# EAGLE library part VIDEOPAC (library BUSES)
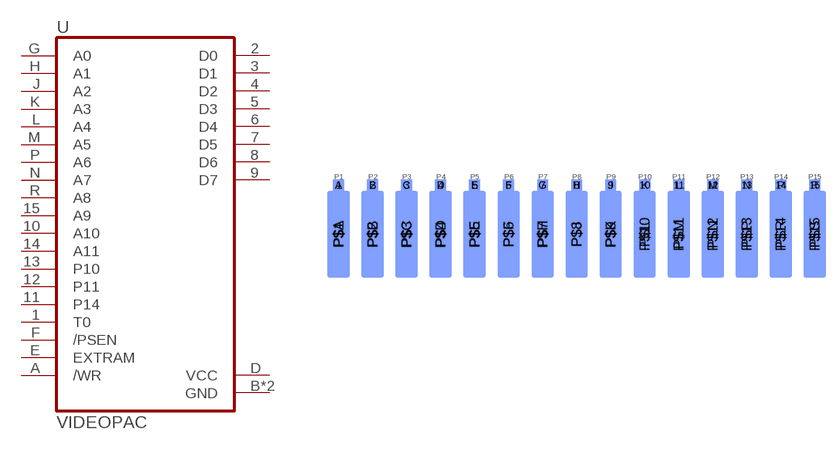
[diagram p0: symbol with the pads of VIDEOPAC; footprint VIDEOPAC]

Designator prefix -

## VIDEOPACEDGE  [VIDEOPAC]
1  T0  out
2  D0
3  D1
4  D2
5  D3
6  D4
7  D5
8  D6
9  D7
10  A10  out
11  P14  out
12  P11  out
13  P10  out
14  A11  out
15  A9  out
A  /WR  out
B  GND  pwr
C  GND  pwr
D  VCC  pwr
E  EXTRAM  out
F  /PSEN  out
G  A0  out
H  A1  out
J  A2  out
K  A3  out
L  A4  out
M  A5  out
N  A7  out
P  A6  out
R  A8  out

## Footprint VIDEOPAC (pad centres in mm)
smd 1.27 x 1.27: 1 -27.683,6.167; 2 -23.723,6.167; 3 -19.763,6.167; 4 -15.803,6.167; 5 -11.843,6.167; 6 -7.883,6.167; 7 -3.923,6.167; 8 0.037,6.167; 9 3.997,6.167; 10 7.957,6.167; 11 11.917,6.167; 12 15.877,6.167; 13 19.837,6.167; 14 23.797,6.167; 15 27.757,6.167
smd 1.27 x 1.27 bottom: A -27.683,6.167; B -23.723,6.167; C -19.763,6.167; D -15.803,6.167; E -11.843,6.167; F -7.883,6.167; G -3.923,6.167; H 0.037,6.167; J 3.997,6.167; K 7.957,6.167; L 11.917,6.167; M 15.877,6.167; N 19.837,6.167; P 23.797,6.167; R 27.757,6.167
smd 2.6 x 10.16: P$1 -27.683,0.452; P$2 -23.723,0.452; P$3 -19.763,0.452; P$4 -15.803,0.452; P$5 -11.843,0.452; P$6 -7.883,0.452; P$7 -3.923,0.452; P$8 0.037,0.452; P$9 3.997,0.452; P$10 7.957,0.452; P$11 11.917,0.452; P$12 15.877,0.452; P$13 19.837,0.452; P$14 23.797,0.452; P$15 27.757,0.452
smd 2.6 x 10.16 bottom: P$A -27.683,0.452; P$B -23.723,0.452; P$C -19.763,0.452; P$D -15.803,0.452; P$E -11.843,0.452; P$F -7.883,0.452; P$H -3.923,0.452; P$J 0.037,0.452; P$K 3.997,0.452; P$L 7.957,0.452; P$M 11.917,0.452; P$N 15.877,0.452; P$P 19.837,0.452; P$R 23.797,0.452; P$S 27.757,0.452